# Altium footprint library SO8-SPE-MCP2561.PcbLib: 1 footprints
Each footprint in its own frame and in the unit in brackets; x right, y up, seen from the top. Pads: shape width x height; smd on the part's side, far side on the other; paste and mask are expansions set on the pad; w line width, h text height; cw(c..) or ccw(c..) is an arc to the next point about the centre after c.
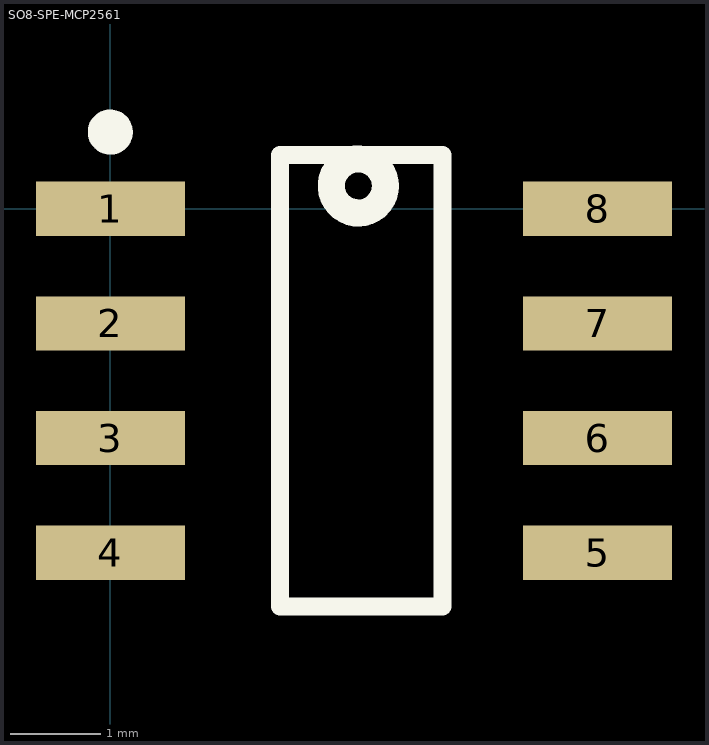
[diagram p0: the footprint, top view; thin cyan lines are the x and y axes]

## SO8-SPE-MCP2561 [mm]
height 1.75
pads (8):
  rect 1.65x0.6 smd: 1(0,0) 2(0,-1.27) 3(0,-2.54) 4(0,-3.81) 5(5.4,-3.81) 6(5.4,-2.54) 7(5.4,-1.27) 8(5.4,0)
Top Overlay:
  circle w0.3: c2.748,0.254 r0.3
  circle w0.25: c0,0.85 r0.125
  lines w0.2: 1.881,-4.405 3.681,-4.405 3.681,0.595 1.881,0.595 1.881,-4.405
3D body: height 1.73, standoff -0.04, extent -0.401,-4.35 5.736,0.54